# EAGLE library part PH_1X06 (library PP_Connectors)
6 pin connectors
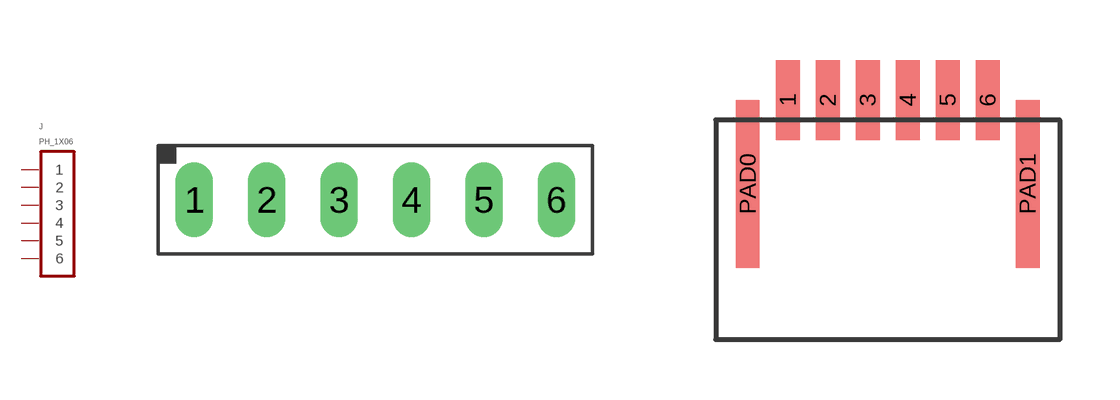
[diagram p0: symbol with the pads of HEADER_01X06_PTH; footprints HEADER_01X06_PTH, HFW6R-2STE1LF]

Designator prefix J

## PH_1X06HEADER_PTH  [HEADER_01X06_PTH]
1  1  pas
2  2  pas
3  3  pas
4  4  pas
5  5  pas
6  6  pas

## PH_1X06FFC  [HFW6R-2STE1LF]
Pads as for HEADER_01X06_PTH

## PH_1X06SMALL_PTH  [HEADER_01X06_SMALL_PTH]
Pads as for HEADER_01X06_PTH

## PH_1X06PTH_ROUND  [HEADER_01X06_PTH_ROUND]
Pads as for HEADER_01X06_PTH

## Footprint HEADER_01X06_PTH (pad centres in mm)
6 pin header
drill 0.8 long: 1 0,0; 2 2.54,0; 3 5.08,0; 4 7.62,0; 5 10.16,0; 6 12.7,0

## Footprint HFW6R-2STE1LF (pad centres in mm)
smd 0.6 x 2: 1 -2.5,0; 2 -1.5,0; 3 -0.5,0; 4 0.5,0; 5 1.5,0; 6 2.5,0
smd 0.6 x 4.2: PAD0 -3.5,-2.1; PAD1 3.5,-2.1

## Footprint HEADER_01X06_SMALL_PTH (pad centres in mm)
drill 0.8: 1 -6.35,0; 2 -3.81,0; 3 -1.27,0; 4 1.27,0; 5 3.81,0; 6 6.35,0

## Footprint HEADER_01X06_PTH_ROUND (pad centres in mm)
drill 0.8: 1 -6.35,0; 2 -3.81,0; 3 -1.27,0; 4 1.27,0; 5 3.81,0; 6 6.35,0